# Altium footprint library HLib_connector_fp.PcbLib: 41 footprints (part 2 of 3)
Each footprint in its own frame and in the unit in brackets; x right, y up, seen from the top. Pads: shape width x height; smd on the part's side, far side on the other; paste and mask are expansions set on the pad; w line width, h text height; cw(c..) or ccw(c..) is an arc to the next point about the centre after c.
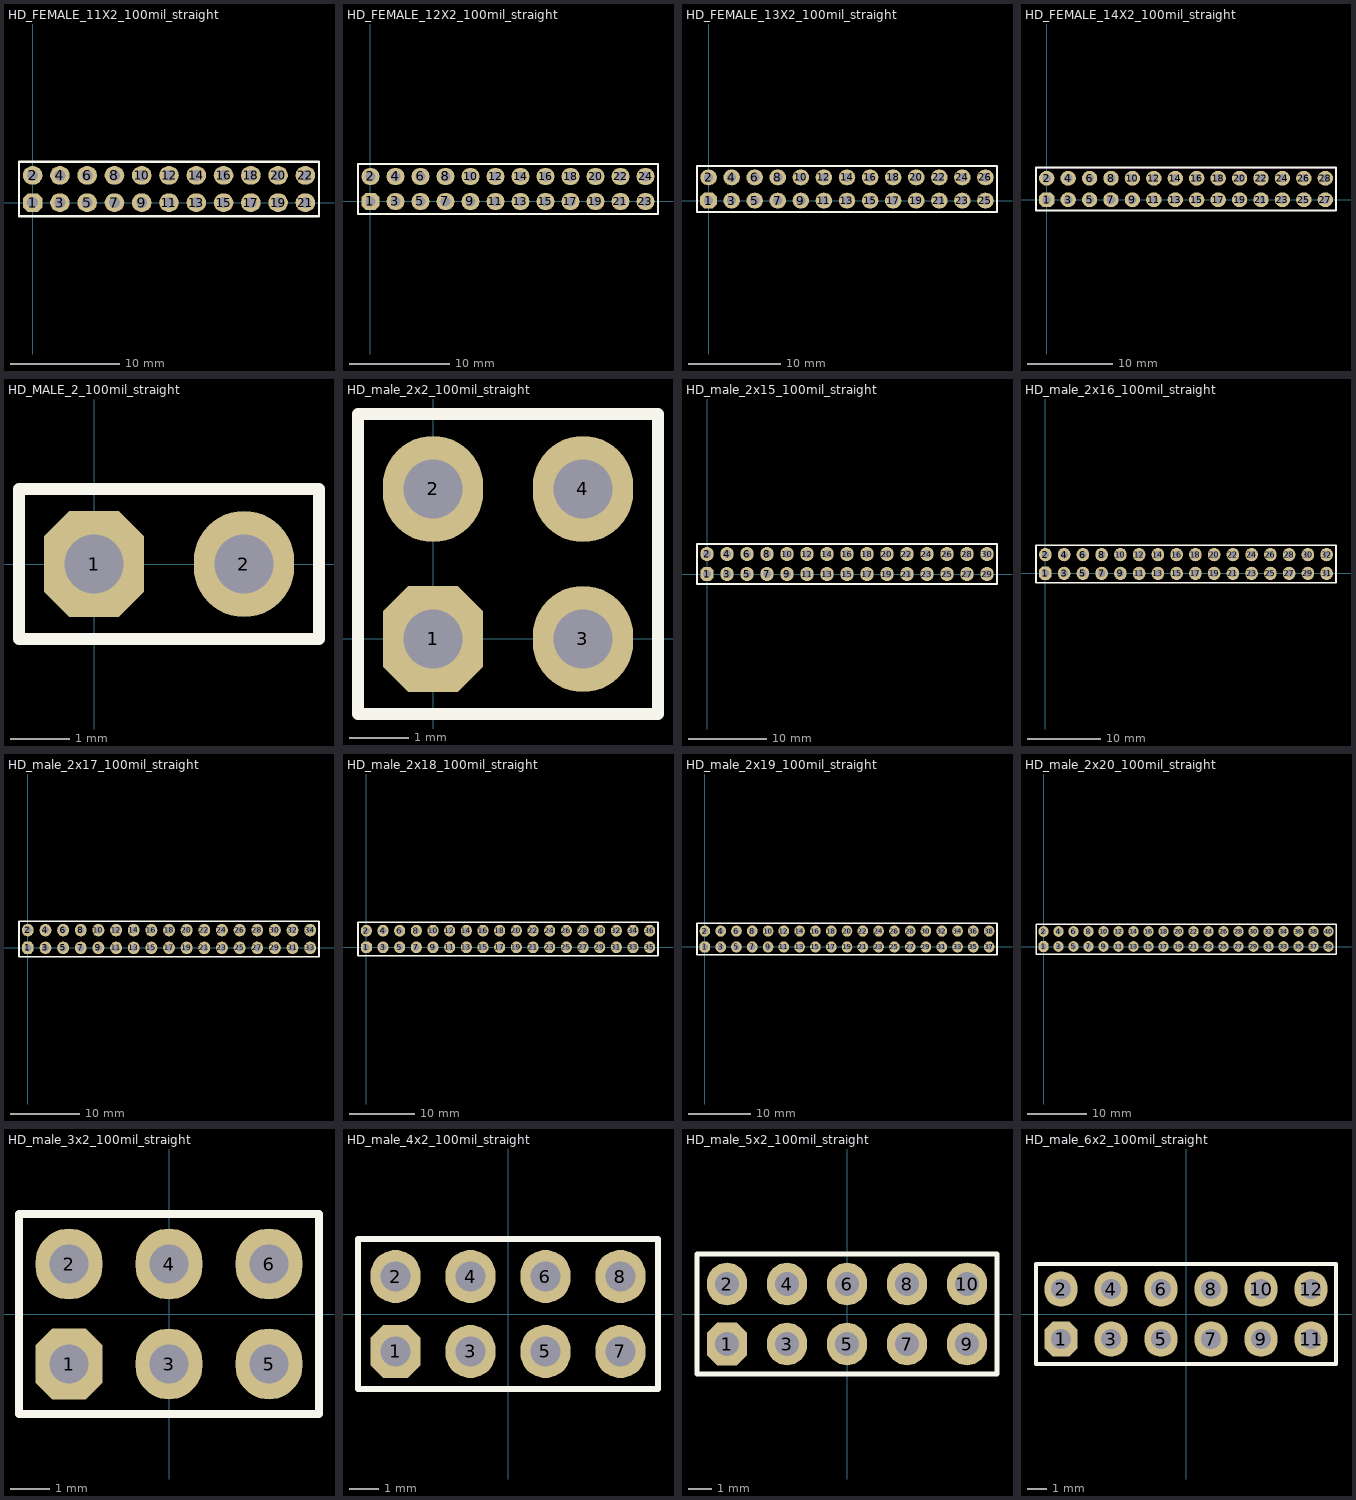
[diagram p1: the footprints below, top view; thin cyan lines are the x and y axes]

## HD_FEMALE_11X2_100mil_straight [mm]
pads (22):
  oct 1.8x1.7 hole 1: 1(0,0)
  oval 1.8x1.7 hole 1: 2(0,2.5) 3(2.5,0) 4(2.5,2.5) 5(5,0) 6(5,2.5) 7(7.5,0) 8(7.5,2.5) 9(10,0) 10(10,2.5) 11(12.5,0) 12(12.5,2.5) 13(15,0) 14(15,2.5) 15(17.5,0) 16(17.5,2.5) 17(20,0) 18(20,2.5) 19(22.5,0) 20(22.5,2.5) 21(25,0) 22(25,2.5)
Top Overlay:
  lines w0.2: -1.25,-1.25 26.25,-1.25 26.25,3.75 -1.25,3.75 -1.25,-1.25
Mechanical 15:
  lines w0.1: -1.25,-1.25 26.25,-1.25 26.25,3.75 -1.25,3.75 -1.25,-1.25
3D body: height 0, standoff -1, extent -0.25,-0.25 0.25,0.25
3D body: height 8, standoff 0, extent 0,-1.25 1.25,3.75
3D body: height 8, standoff 0, extent -1.25,-1.25 0,3.75
3D body: height 8, standoff 0, extent 2.5,-1.25 3.75,3.75
3D body: height 8, standoff 0, extent 1.25,-1.25 2.5,3.75
3D body: height 8, standoff 0, extent 5,-1.25 6.25,3.75
3D body: height 8, standoff 0, extent 3.75,-1.25 5,3.75
3D body: height 8, standoff 0, extent 7.5,-1.25 8.75,3.75
3D body: height 8, standoff 0, extent 6.25,-1.25 7.5,3.75
3D body: height 8, standoff 0, extent 10,-1.25 11.25,3.75
3D body: height 8, standoff 0, extent 8.75,-1.25 10,3.75
3D body: height 8, standoff 0, extent 12.5,-1.25 13.75,3.75
3D body: height 8, standoff 0, extent 11.25,-1.25 12.5,3.75
3D body: height 8, standoff 0, extent 15,-1.25 16.25,3.75
3D body: height 8, standoff 0, extent 13.75,-1.25 15,3.75
3D body: height 8, standoff 0, extent 17.5,-1.25 18.75,3.75
3D body: height 8, standoff 0, extent 16.25,-1.25 17.5,3.75
3D body: height 8, standoff 0, extent 20,-1.25 21.25,3.75
3D body: height 8, standoff 0, extent 18.75,-1.25 20,3.75
3D body: height 8, standoff 0, extent 22.5,-1.25 23.75,3.75
3D body: height 8, standoff 0, extent 21.25,-1.25 22.5,3.75
3D body: height 8, standoff 0, extent 25,-1.25 26.25,3.75
3D body: height 8, standoff 0, extent 23.75,-1.25 25,3.75
3D body: height 0, standoff -1, extent -0.25,2.25 0.25,2.75
3D body: height 0, standoff -1, extent 2.25,2.25 2.75,2.75
3D body: height 0, standoff -1, extent 2.25,-0.25 2.75,0.25
3D body: height 0, standoff -1, extent 4.75,2.25 5.25,2.75
3D body: height 0, standoff -1, extent 4.75,-0.25 5.25,0.25
3D body: height 0, standoff -1, extent 7.25,2.25 7.75,2.75
3D body: height 0, standoff -1, extent 7.25,-0.25 7.75,0.25
3D body: height 0, standoff -1, extent 9.75,2.25 10.25,2.75
3D body: height 0, standoff -1, extent 9.75,-0.25 10.25,0.25
3D body: height 0, standoff -1, extent 12.25,2.25 12.75,2.75
3D body: height 0, standoff -1, extent 12.25,-0.25 12.75,0.25
3D body: height 0, standoff -1, extent 14.75,2.25 15.25,2.75
3D body: height 0, standoff -1, extent 14.75,-0.25 15.25,0.25
3D body: height 0, standoff -1, extent 17.25,2.25 17.75,2.75
3D body: height 0, standoff -1, extent 17.25,-0.25 17.75,0.25
3D body: height 0, standoff -1, extent 19.75,2.25 20.25,2.75
3D body: height 0, standoff -1, extent 19.75,-0.25 20.25,0.25
3D body: height 0, standoff -1, extent 22.25,2.25 22.75,2.75
3D body: height 0, standoff -1, extent 22.25,-0.25 22.75,0.25
3D body: height 0, standoff -1, extent 24.75,2.25 25.25,2.75
3D body: height 0, standoff -1, extent 24.75,-0.25 25.25,0.25

## HD_FEMALE_12X2_100mil_straight [mm]
pads (24):
  oct 1.8x1.7 hole 1: 1(0,0)
  oval 1.8x1.7 hole 1: 2(0,2.5) 3(2.5,0) 4(2.5,2.5) 5(5,0) 6(5,2.5) 7(7.5,0) 8(7.5,2.5) 9(10,0) 10(10,2.5) 11(12.5,0) 12(12.5,2.5) 13(15,0) 14(15,2.5) 15(17.5,0) 16(17.5,2.5) 17(20,0) 18(20,2.5) 19(22.5,0) 20(22.5,2.5) 21(25,0) 22(25,2.5) 23(27.5,0) 24(27.5,2.5)
Top Overlay:
  lines w0.2: -1.25,-1.25 -1.25,3.75 28.75,3.75 28.75,-1.25 -1.25,-1.25
Mechanical 15:
  lines w0.1: -1.25,-1.25 -1.25,3.75 28.75,3.75 28.75,-1.25 -1.25,-1.25
3D body: height 0, standoff -1, extent 27.25,-0.25 27.75,0.25
3D body: height 0, standoff -1, extent 27.25,2.25 27.75,2.75
3D body: height 0, standoff -1, extent 24.75,-0.25 25.25,0.25
3D body: height 0, standoff -1, extent 24.75,2.25 25.25,2.75
3D body: height 0, standoff -1, extent 22.25,-0.25 22.75,0.25
3D body: height 0, standoff -1, extent 22.25,2.25 22.75,2.75
3D body: height 0, standoff -1, extent 19.75,-0.25 20.25,0.25
3D body: height 0, standoff -1, extent 19.75,2.25 20.25,2.75
3D body: height 0, standoff -1, extent 17.25,-0.25 17.75,0.25
3D body: height 0, standoff -1, extent 17.25,2.25 17.75,2.75
3D body: height 0, standoff -1, extent 14.75,-0.25 15.25,0.25
3D body: height 0, standoff -1, extent 14.75,2.25 15.25,2.75
3D body: height 0, standoff -1, extent 12.25,-0.25 12.75,0.25
3D body: height 0, standoff -1, extent 12.25,2.25 12.75,2.75
3D body: height 0, standoff -1, extent 9.75,-0.25 10.25,0.25
3D body: height 0, standoff -1, extent 9.75,2.25 10.25,2.75
3D body: height 0, standoff -1, extent 7.25,-0.25 7.75,0.25
3D body: height 0, standoff -1, extent 7.25,2.25 7.75,2.75
3D body: height 0, standoff -1, extent 4.75,-0.25 5.25,0.25
3D body: height 0, standoff -1, extent 4.75,2.25 5.25,2.75
3D body: height 0, standoff -1, extent 2.25,-0.25 2.75,0.25
3D body: height 0, standoff -1, extent 2.25,2.25 2.75,2.75
3D body: height 0, standoff -1, extent -0.25,2.25 0.25,2.75
3D body: height 8, standoff 0, extent 26.25,-1.25 27.5,3.75
3D body: height 8, standoff 0, extent 27.5,-1.25 28.75,3.75
3D body: height 8, standoff 0, extent 23.75,-1.25 25,3.75
3D body: height 8, standoff 0, extent 25,-1.25 26.25,3.75
3D body: height 8, standoff 0, extent 21.25,-1.25 22.5,3.75
3D body: height 8, standoff 0, extent 22.5,-1.25 23.75,3.75
3D body: height 8, standoff 0, extent 18.75,-1.25 20,3.75
3D body: height 8, standoff 0, extent 20,-1.25 21.25,3.75
3D body: height 8, standoff 0, extent 16.25,-1.25 17.5,3.75
3D body: height 8, standoff 0, extent 17.5,-1.25 18.75,3.75
3D body: height 8, standoff 0, extent 13.75,-1.25 15,3.75
3D body: height 8, standoff 0, extent 15,-1.25 16.25,3.75
3D body: height 8, standoff 0, extent 11.25,-1.25 12.5,3.75
3D body: height 8, standoff 0, extent 12.5,-1.25 13.75,3.75
3D body: height 8, standoff 0, extent 8.75,-1.25 10,3.75
3D body: height 8, standoff 0, extent 10,-1.25 11.25,3.75
3D body: height 8, standoff 0, extent 6.25,-1.25 7.5,3.75
3D body: height 8, standoff 0, extent 7.5,-1.25 8.75,3.75
3D body: height 8, standoff 0, extent 3.75,-1.25 5,3.75
3D body: height 8, standoff 0, extent 5,-1.25 6.25,3.75
3D body: height 8, standoff 0, extent 1.25,-1.25 2.5,3.75
3D body: height 8, standoff 0, extent 2.5,-1.25 3.75,3.75
3D body: height 8, standoff 0, extent -1.25,-1.25 0,3.75
3D body: height 8, standoff 0, extent 0,-1.25 1.25,3.75
3D body: height 0, standoff -1, extent -0.25,-0.25 0.25,0.25

## HD_FEMALE_13X2_100mil_straight [mm]
pads (26):
  oct 1.8x1.7 hole 1: 1(0,0)
  oval 1.8x1.7 hole 1: 2(0,2.5) 3(2.5,0) 4(2.5,2.5) 5(5,0) 6(5,2.5) 7(7.5,0) 8(7.5,2.5) 9(10,0) 10(10,2.5) 11(12.5,0) 12(12.5,2.5) 13(15,0) 14(15,2.5) 15(17.5,0) 16(17.5,2.5) 17(20,0) 18(20,2.5) 19(22.5,0) 20(22.5,2.5) 21(25,0) 22(25,2.5) 23(27.5,0) 24(27.5,2.5) 25(30,0) 26(30,2.5)
Top Overlay:
  lines w0.2: -1.25,-1.25 31.25,-1.25 31.25,3.75 -1.25,3.75 -1.25,-1.25
Mechanical 15:
  lines w0.1: -1.25,-1.25 31.25,-1.25 31.25,3.75 -1.25,3.75 -1.25,-1.25
3D body: height 0, standoff -1, extent -0.25,-0.25 0.25,0.25
3D body: height 8, standoff 0, extent 0,-1.25 1.25,3.75
3D body: height 8, standoff 0, extent -1.25,-1.25 0,3.75
3D body: height 8, standoff 0, extent 2.5,-1.25 3.75,3.75
3D body: height 8, standoff 0, extent 1.25,-1.25 2.5,3.75
3D body: height 8, standoff 0, extent 5,-1.25 6.25,3.75
3D body: height 8, standoff 0, extent 3.75,-1.25 5,3.75
3D body: height 8, standoff 0, extent 7.5,-1.25 8.75,3.75
3D body: height 8, standoff 0, extent 6.25,-1.25 7.5,3.75
3D body: height 8, standoff 0, extent 10,-1.25 11.25,3.75
3D body: height 8, standoff 0, extent 8.75,-1.25 10,3.75
3D body: height 8, standoff 0, extent 12.5,-1.25 13.75,3.75
3D body: height 8, standoff 0, extent 11.25,-1.25 12.5,3.75
3D body: height 8, standoff 0, extent 15,-1.25 16.25,3.75
3D body: height 8, standoff 0, extent 13.75,-1.25 15,3.75
3D body: height 8, standoff 0, extent 17.5,-1.25 18.75,3.75
3D body: height 8, standoff 0, extent 16.25,-1.25 17.5,3.75
3D body: height 8, standoff 0, extent 20,-1.25 21.25,3.75
3D body: height 8, standoff 0, extent 18.75,-1.25 20,3.75
3D body: height 8, standoff 0, extent 22.5,-1.25 23.75,3.75
3D body: height 8, standoff 0, extent 21.25,-1.25 22.5,3.75
3D body: height 8, standoff 0, extent 25,-1.25 26.25,3.75
3D body: height 8, standoff 0, extent 23.75,-1.25 25,3.75
3D body: height 8, standoff 0, extent 27.5,-1.25 28.75,3.75
3D body: height 8, standoff 0, extent 26.25,-1.25 27.5,3.75
3D body: height 8, standoff 0, extent 30,-1.25 31.25,3.75
3D body: height 8, standoff 0, extent 28.75,-1.25 30,3.75
3D body: height 0, standoff -1, extent -0.25,2.25 0.25,2.75
3D body: height 0, standoff -1, extent 2.25,2.25 2.75,2.75
3D body: height 0, standoff -1, extent 2.25,-0.25 2.75,0.25
3D body: height 0, standoff -1, extent 4.75,2.25 5.25,2.75
3D body: height 0, standoff -1, extent 4.75,-0.25 5.25,0.25
3D body: height 0, standoff -1, extent 7.25,2.25 7.75,2.75
3D body: height 0, standoff -1, extent 7.25,-0.25 7.75,0.25
3D body: height 0, standoff -1, extent 9.75,2.25 10.25,2.75
3D body: height 0, standoff -1, extent 9.75,-0.25 10.25,0.25
3D body: height 0, standoff -1, extent 12.25,2.25 12.75,2.75
3D body: height 0, standoff -1, extent 12.25,-0.25 12.75,0.25
3D body: height 0, standoff -1, extent 14.75,2.25 15.25,2.75
3D body: height 0, standoff -1, extent 14.75,-0.25 15.25,0.25
3D body: height 0, standoff -1, extent 17.25,2.25 17.75,2.75
3D body: height 0, standoff -1, extent 17.25,-0.25 17.75,0.25
3D body: height 0, standoff -1, extent 19.75,2.25 20.25,2.75
3D body: height 0, standoff -1, extent 19.75,-0.25 20.25,0.25
3D body: height 0, standoff -1, extent 22.25,2.25 22.75,2.75
3D body: height 0, standoff -1, extent 22.25,-0.25 22.75,0.25
3D body: height 0, standoff -1, extent 24.75,2.25 25.25,2.75
3D body: height 0, standoff -1, extent 24.75,-0.25 25.25,0.25
3D body: height 0, standoff -1, extent 27.25,2.25 27.75,2.75
3D body: height 0, standoff -1, extent 27.25,-0.25 27.75,0.25
3D body: height 0, standoff -1, extent 29.75,2.25 30.25,2.75
3D body: height 0, standoff -1, extent 29.75,-0.25 30.25,0.25

## HD_FEMALE_14X2_100mil_straight [mm]
pads (28):
  oct 1.8x1.7 hole 1: 1(0,0)
  oval 1.8x1.7 hole 1: 2(0,2.5) 3(2.5,0) 4(2.5,2.5) 5(5,0) 6(5,2.5) 7(7.5,0) 8(7.5,2.5) 9(10,0) 10(10,2.5) 11(12.5,0) 12(12.5,2.5) 13(15,0) 14(15,2.5) 15(17.5,0) 16(17.5,2.5) 17(20,0) 18(20,2.5) 19(22.5,0) 20(22.5,2.5) 21(25,0) 22(25,2.5) 23(27.5,0) 24(27.5,2.5) 25(30,0) 26(30,2.5) 27(32.5,0) 28(32.5,2.5)
Top Overlay:
  lines w0.2: -1.25,-1.25 33.75,-1.25 33.75,3.75 -1.25,3.75 -1.25,-1.25
Mechanical 15:
  lines w0.1: -1.25,-1.25 33.75,-1.25 33.75,3.75 -1.25,3.75 -1.25,-1.25
3D body: height 0, standoff -1, extent -0.25,-0.25 0.25,0.25
3D body: height 8, standoff 0, extent 0,-1.25 1.25,3.75
3D body: height 8, standoff 0, extent -1.25,-1.25 0,3.75
3D body: height 8, standoff 0, extent 2.5,-1.25 3.75,3.75
3D body: height 8, standoff 0, extent 1.25,-1.25 2.5,3.75
3D body: height 8, standoff 0, extent 5,-1.25 6.25,3.75
3D body: height 8, standoff 0, extent 3.75,-1.25 5,3.75
3D body: height 8, standoff 0, extent 7.5,-1.25 8.75,3.75
3D body: height 8, standoff 0, extent 6.25,-1.25 7.5,3.75
3D body: height 8, standoff 0, extent 10,-1.25 11.25,3.75
3D body: height 8, standoff 0, extent 8.75,-1.25 10,3.75
3D body: height 8, standoff 0, extent 12.5,-1.25 13.75,3.75
3D body: height 8, standoff 0, extent 11.25,-1.25 12.5,3.75
3D body: height 8, standoff 0, extent 15,-1.25 16.25,3.75
3D body: height 8, standoff 0, extent 13.75,-1.25 15,3.75
3D body: height 8, standoff 0, extent 17.5,-1.25 18.75,3.75
3D body: height 8, standoff 0, extent 16.25,-1.25 17.5,3.75
3D body: height 8, standoff 0, extent 20,-1.25 21.25,3.75
3D body: height 8, standoff 0, extent 18.75,-1.25 20,3.75
3D body: height 8, standoff 0, extent 22.5,-1.25 23.75,3.75
3D body: height 8, standoff 0, extent 21.25,-1.25 22.5,3.75
3D body: height 8, standoff 0, extent 25,-1.25 26.25,3.75
3D body: height 8, standoff 0, extent 23.75,-1.25 25,3.75
3D body: height 8, standoff 0, extent 27.5,-1.25 28.75,3.75
3D body: height 8, standoff 0, extent 26.25,-1.25 27.5,3.75
3D body: height 8, standoff 0, extent 30,-1.25 31.25,3.75
3D body: height 8, standoff 0, extent 28.75,-1.25 30,3.75
3D body: height 8, standoff 0, extent 31.25,-1.25 32.5,3.75
3D body: height 8, standoff 0, extent 32.5,-1.25 33.75,3.75
3D body: height 0, standoff -1, extent -0.25,2.25 0.25,2.75
3D body: height 0, standoff -1, extent 2.25,2.25 2.75,2.75
3D body: height 0, standoff -1, extent 2.25,-0.25 2.75,0.25
3D body: height 0, standoff -1, extent 4.75,2.25 5.25,2.75
3D body: height 0, standoff -1, extent 4.75,-0.25 5.25,0.25
3D body: height 0, standoff -1, extent 7.25,2.25 7.75,2.75
3D body: height 0, standoff -1, extent 7.25,-0.25 7.75,0.25
3D body: height 0, standoff -1, extent 9.75,2.25 10.25,2.75
3D body: height 0, standoff -1, extent 9.75,-0.25 10.25,0.25
3D body: height 0, standoff -1, extent 12.25,2.25 12.75,2.75
3D body: height 0, standoff -1, extent 12.25,-0.25 12.75,0.25
3D body: height 0, standoff -1, extent 14.75,2.25 15.25,2.75
3D body: height 0, standoff -1, extent 14.75,-0.25 15.25,0.25
3D body: height 0, standoff -1, extent 17.25,2.25 17.75,2.75
3D body: height 0, standoff -1, extent 17.25,-0.25 17.75,0.25
3D body: height 0, standoff -1, extent 19.75,2.25 20.25,2.75
3D body: height 0, standoff -1, extent 19.75,-0.25 20.25,0.25
3D body: height 0, standoff -1, extent 22.25,2.25 22.75,2.75
3D body: height 0, standoff -1, extent 22.25,-0.25 22.75,0.25
3D body: height 0, standoff -1, extent 24.75,2.25 25.25,2.75
3D body: height 0, standoff -1, extent 24.75,-0.25 25.25,0.25
3D body: height 0, standoff -1, extent 27.25,2.25 27.75,2.75
3D body: height 0, standoff -1, extent 27.25,-0.25 27.75,0.25
3D body: height 0, standoff -1, extent 29.75,2.25 30.25,2.75
3D body: height 0, standoff -1, extent 29.75,-0.25 30.25,0.25
3D body: height 0, standoff -1, extent 32.25,2.25 32.75,2.75
3D body: height 0, standoff -1, extent 32.25,-0.25 32.75,0.25

## HD_MALE_2_100mil_straight [mm]
pads (2):
  oct 1.7x1.8 hole 1: 1(0,0)
  oval 1.7x1.8 hole 1: 2(2.54,0)
Top Overlay:
  lines w0.2: -1.27,-1.27 3.81,-1.27 3.81,1.27 -1.27,1.27 -1.27,-1.27
Mechanical 15:
  lines w0.1: -1.27,-1.27 3.81,-1.27 3.81,1.27 -1.27,1.27 -1.27,-1.27
3D body: height 8, standoff -1, extent -0.254,-0.254 0.254,0.254
3D body: height 8, standoff -1, extent 2.286,-0.254 2.794,0.254
3D body: height 2, standoff 0, extent -1.27,-1.27 1.27,1.27
3D body: height 2, standoff 0, extent 1.27,-1.27 3.81,1.27

## HD_male_2x2_100mil_straight [mm]
pads (4):
  oct 1.7x1.8 hole 1: 1(0,0)
  oval 1.7x1.8 hole 1: 2(0,2.54) 3(2.54,0) 4(2.54,2.54)
Top Overlay:
  lines w0.2: -1.27,-1.27 -1.27,3.81 3.81,3.81 3.81,-1.27 -1.27,-1.27
Mechanical 15:
  lines w0.1: -1.27,-1.27 -1.27,3.81 3.81,3.81 3.81,-1.27 -1.27,-1.27
3D body: height 8, standoff -1, extent 2.286,2.286 2.794,2.794
3D body: height 8, standoff -1, extent 2.286,-0.254 2.794,0.254
3D body: height 8, standoff -1, extent 0,2.286 0.508,2.794
3D body: height 8, standoff -1, extent -0.254,-0.254 0.254,0.254
3D body: height 2, standoff 0, extent 1.27,1.27 3.81,3.81
3D body: height 2, standoff 0, extent -1.27,-1.27 1.27,1.27
3D body: height 2, standoff 0, extent 1.27,-1.27 3.81,1.27
3D body: height 2, standoff 0, extent -1.27,1.27 1.27,3.81

## HD_male_2x15_100mil_straight [mm]
pads (30):
  oct 1.7x1.8 hole 1: 1(0,0)
  oval 1.7x1.8 hole 1: 2(0,2.54) 3(2.54,0) 4(2.54,2.54) 5(5.08,0) 6(5.08,2.54) 7(7.62,0) 8(7.62,2.54) 9(10.16,0) 10(10.16,2.54) 11(12.7,0) 12(12.7,2.54) 13(15.24,0) 14(15.24,2.54) 15(17.78,0) 16(17.78,2.54) 17(20.32,0) 18(20.32,2.54) 19(22.86,0) 20(22.86,2.54) 21(25.4,0) 22(25.4,2.54) 23(27.94,0) 24(27.94,2.54) 25(30.48,0) 26(30.48,2.54) 27(33.02,0) 28(33.02,2.54) 29(35.56,0) 30(35.56,2.54)
Top Overlay:
  lines w0.254: -1.27,-1.27 36.83,-1.27 36.83,3.81 -1.27,3.81 -1.27,-1.27
3D body: height 9.5, standoff -3, extent -1.27,-1.27 36.83,3.81

## HD_male_2x16_100mil_straight [mm]
pads (32):
  oct 1.7x1.8 hole 1: 1(0,0)
  oval 1.7x1.8 hole 1: 2(0,2.54) 3(2.54,0) 4(2.54,2.54) 5(5.08,0) 6(5.08,2.54) 7(7.62,0) 8(7.62,2.54) 9(10.16,0) 10(10.16,2.54) 11(12.7,0) 12(12.7,2.54) 13(15.24,0) 14(15.24,2.54) 15(17.78,0) 16(17.78,2.54) 17(20.32,0) 18(20.32,2.54) 19(22.86,0) 20(22.86,2.54) 21(25.4,0) 22(25.4,2.54) 23(27.94,0) 24(27.94,2.54) 25(30.48,0) 26(30.48,2.54) 27(33.02,0) 28(33.02,2.54) 29(35.56,0) 30(35.56,2.54) 31(38.1,0) 32(38.1,2.54)
Top Overlay:
  lines w0.254: -1.27,-1.27 -1.27,3.81 39.37,3.81 39.37,-1.27 -1.27,-1.27
3D body: height 9.5, standoff -3, extent -1.27,-1.27 39.37,3.81

## HD_male_2x17_100mil_straight [mm]
pads (34):
  oct 1.7x1.8 hole 1: 1(0,0)
  oval 1.7x1.8 hole 1: 2(0,2.54) 3(2.54,0) 4(2.54,2.54) 5(5.08,0) 6(5.08,2.54) 7(7.62,0) 8(7.62,2.54) 9(10.16,0) 10(10.16,2.54) 11(12.7,0) 12(12.7,2.54) 13(15.24,0) 14(15.24,2.54) 15(17.78,0) 16(17.78,2.54) 17(20.32,0) 18(20.32,2.54) 19(22.86,0) 20(22.86,2.54) 21(25.4,0) 22(25.4,2.54) 23(27.94,0) 24(27.94,2.54) 25(30.48,0) 26(30.48,2.54) 27(33.02,0) 28(33.02,2.54) 29(35.56,0) 30(35.56,2.54) 31(38.1,0) 32(38.1,2.54) 33(40.64,0) 34(40.64,2.54)
Top Overlay:
  lines w0.254: -1.27,-1.27 41.91,-1.27 41.91,3.81 -1.27,3.81 -1.27,-1.27
3D body: height 9.5, standoff -3, extent -1.27,-1.27 41.91,3.81

## HD_male_2x18_100mil_straight [mm]
pads (36):
  oct 1.7x1.8 hole 1: 1(0,0)
  oval 1.7x1.8 hole 1: 2(0,2.54) 3(2.54,0) 4(2.54,2.54) 5(5.08,0) 6(5.08,2.54) 7(7.62,0) 8(7.62,2.54) 9(10.16,0) 10(10.16,2.54) 11(12.7,0) 12(12.7,2.54) 13(15.24,0) 14(15.24,2.54) 15(17.78,0) 16(17.78,2.54) 17(20.32,0) 18(20.32,2.54) 19(22.86,0) 20(22.86,2.54) 21(25.4,0) 22(25.4,2.54) 23(27.94,0) 24(27.94,2.54) 25(30.48,0) 26(30.48,2.54) 27(33.02,0) 28(33.02,2.54) 29(35.56,0) 30(35.56,2.54) 31(38.1,0) 32(38.1,2.54) 33(40.64,0) 34(40.64,2.54) 35(43.18,0) 36(43.18,2.54)
Top Overlay:
  lines w0.254: -1.27,-1.27 -1.27,3.81 44.45,3.81 44.45,-1.27 -1.27,-1.27
3D body: height 9.5, standoff -3, extent -1.27,-1.27 44.45,3.81

## HD_male_2x19_100mil_straight [mm]
pads (38):
  oct 1.7x1.8 hole 1: 1(0,0)
  oval 1.7x1.8 hole 1: 2(0,2.54) 3(2.54,0) 4(2.54,2.54) 5(5.08,0) 6(5.08,2.54) 7(7.62,0) 8(7.62,2.54) 9(10.16,0) 10(10.16,2.54) 11(12.7,0) 12(12.7,2.54) 13(15.24,0) 14(15.24,2.54) 15(17.78,0) 16(17.78,2.54) 17(20.32,0) 18(20.32,2.54) 19(22.86,0) 20(22.86,2.54) 21(25.4,0) 22(25.4,2.54) 23(27.94,0) 24(27.94,2.54) 25(30.48,0) 26(30.48,2.54) 27(33.02,0) 28(33.02,2.54) 29(35.56,0) 30(35.56,2.54) 31(38.1,0) 32(38.1,2.54) 33(40.64,0) 34(40.64,2.54) 35(43.18,0) 36(43.18,2.54) 37(45.72,0) 38(45.72,2.54)
Top Overlay:
  lines w0.254: -1.27,-1.27 -1.27,3.81 46.99,3.81 46.99,-1.27 -1.27,-1.27
3D body: height 9.5, standoff -3, extent -1.27,-1.27 46.99,3.81

## HD_male_2x20_100mil_straight [mm]
pads (40):
  oct 1.7x1.8 hole 1: 1(0,0)
  oval 1.7x1.8 hole 1: 2(0,2.54) 3(2.54,0) 4(2.54,2.54) 5(5.08,0) 6(5.08,2.54) 7(7.62,0) 8(7.62,2.54) 9(10.16,0) 10(10.16,2.54) 11(12.7,0) 12(12.7,2.54) 13(15.24,0) 14(15.24,2.54) 15(17.78,0) 16(17.78,2.54) 17(20.32,0) 18(20.32,2.54) 19(22.86,0) 20(22.86,2.54) 21(25.4,0) 22(25.4,2.54) 23(27.94,0) 24(27.94,2.54) 25(30.48,0) 26(30.48,2.54) 27(33.02,0) 28(33.02,2.54) 29(35.56,0) 30(35.56,2.54) 31(38.1,0) 32(38.1,2.54) 33(40.64,0) 34(40.64,2.54) 35(43.18,0) 36(43.18,2.54) 37(45.72,0) 38(45.72,2.54) 39(48.26,0) 40(48.26,2.54)
Top Overlay:
  lines w0.254: -1.27,-1.27 -1.27,3.81 49.53,3.81 49.53,-1.27 -1.27,-1.27
3D body: height 9.5, standoff -3, extent -1.27,-1.27 49.53,3.81

## HD_male_3x2_100mil_straight [mm]
pads (6):
  oct 1.7x1.8 hole 1: 1(-2.54,-1.27)
  oval 1.7x1.8 hole 1: 2(-2.54,1.27) 3(0,-1.27) 4(0,1.27) 5(2.54,-1.27) 6(2.54,1.27)
Top Overlay:
  lines w0.2: -3.81,-2.54 3.81,-2.54 3.81,2.54 -3.81,2.54 -3.81,-2.54
Mechanical 15 keep-out:
  lines w0.1: -3.81,-2.54 -3.81,2.54 3.81,2.54 3.81,-2.54 -3.81,-2.54
3D body: height 2, standoff 0, extent 1.27,0 3.81,2.54
3D body: height 2, standoff 0, extent -1.27,0 1.27,2.54
3D body: height 2, standoff 0, extent -3.81,0 -1.27,2.54
3D body: height 2, standoff 0, extent 1.27,-2.54 3.81,0
3D body: height 2, standoff 0, extent -1.27,-2.54 1.27,0
3D body: height 2, standoff 0, extent -3.81,-2.54 -1.27,0
3D body: height 8, standoff -1, extent 2.286,1.016 2.794,1.524
3D body: height 8, standoff -1, extent 2.286,-1.524 2.794,-1.016
3D body: height 8, standoff -1, extent -0.254,1.016 0.254,1.524
3D body: height 8, standoff -1, extent -0.254,-1.524 0.254,-1.016
3D body: height 8, standoff -1, extent -2.794,1.016 -2.286,1.524
3D body: height 8, standoff -1, extent -2.794,-1.524 -2.286,-1.016

## HD_male_4x2_100mil_straight [mm]
pads (8):
  oct 1.7x1.8 hole 1: 1(-3.81,-1.27)
  oval 1.7x1.8 hole 1: 2(-3.81,1.27) 3(-1.27,-1.27) 4(-1.27,1.27) 5(1.27,-1.27) 6(1.27,1.27) 7(3.81,-1.27) 8(3.81,1.27)
Top Overlay:
  lines w0.2: -5.08,-2.54 5.08,-2.54 5.08,2.54 -5.08,2.54 -5.08,-2.54
Mechanical 15 keep-out:
  lines w0.1: -5.08,-2.54 -5.08,2.54 5.08,2.54 5.08,-2.54 -5.08,-2.54
3D body: height 2, standoff 0, extent -5.08,-2.54 -2.54,0
3D body: height 2, standoff 0, extent -2.54,-2.54 0,0
3D body: height 2, standoff 0, extent 0,-2.54 2.54,0
3D body: height 2, standoff 0, extent 2.54,-2.54 5.08,0
3D body: height 2, standoff 0, extent -5.08,0 -2.54,2.54
3D body: height 2, standoff 0, extent -2.54,0 0,2.54
3D body: height 2, standoff 0, extent 0,0 2.54,2.54
3D body: height 2, standoff 0, extent 2.54,0 5.08,2.54
3D body: height 8, standoff -1, extent 3.556,-1.524 4.064,-1.016
3D body: height 8, standoff -1, extent 1.016,-1.524 1.524,-1.016
3D body: height 8, standoff -1, extent -1.524,-1.524 -1.016,-1.016
3D body: height 8, standoff -1, extent -4.064,-1.524 -3.556,-1.016
3D body: height 8, standoff -1, extent -4.064,1.016 -3.556,1.524
3D body: height 8, standoff -1, extent -1.524,1.016 -1.016,1.524
3D body: height 8, standoff -1, extent 1.016,1.016 1.524,1.524
3D body: height 8, standoff -1, extent 3.556,1.016 4.064,1.524

## HD_male_5x2_100mil_straight [mm]
pads (10):
  oct 1.7x1.8 hole 1: 1(-5.08,-1.27)
  oval 1.7x1.8 hole 1: 2(-5.08,1.27) 3(-2.54,-1.27) 4(-2.54,1.27) 5(0,-1.27) 6(0,1.27) 7(2.54,-1.27) 8(2.54,1.27) 9(5.08,-1.27) 10(5.08,1.27)
Top Overlay:
  lines w0.2: -6.35,-2.54 -6.35,2.54 6.35,2.54 6.35,-2.54 -6.35,-2.54
Mechanical 15 keep-out:
  lines w0.1: -6.35,-2.54 -6.35,2.54 6.35,2.54 6.35,-2.54 -6.35,-2.54
3D body: height 2, standoff 0, extent 3.81,0 6.35,2.54
3D body: height 2, standoff 0, extent 1.27,0 3.81,2.54
3D body: height 2, standoff 0, extent -1.27,0 1.27,2.54
3D body: height 2, standoff 0, extent -3.81,0 -1.27,2.54
3D body: height 2, standoff 0, extent -6.35,0 -3.81,2.54
3D body: height 2, standoff 0, extent 3.81,-2.54 6.35,0
3D body: height 2, standoff 0, extent 1.27,-2.54 3.81,0
3D body: height 2, standoff 0, extent -1.27,-2.54 1.27,0
3D body: height 2, standoff 0, extent -3.81,-2.54 -1.27,0
3D body: height 2, standoff 0, extent -6.35,-2.54 -3.81,0
3D body: height 8, standoff -1, extent 4.826,1.016 5.334,1.524
3D body: height 8, standoff -1, extent 2.286,1.016 2.794,1.524
3D body: height 8, standoff -1, extent 4.826,-1.524 5.334,-1.016
3D body: height 8, standoff -1, extent 2.286,-1.524 2.794,-1.016
3D body: height 8, standoff -1, extent -0.254,-1.524 0.254,-1.016
3D body: height 8, standoff -1, extent -2.794,-1.524 -2.286,-1.016
3D body: height 8, standoff -1, extent -5.334,-1.524 -4.826,-1.016
3D body: height 8, standoff -1, extent -5.334,1.016 -4.826,1.524
3D body: height 8, standoff -1, extent -2.794,1.016 -2.286,1.524
3D body: height 8, standoff -1, extent -0.254,1.016 0.254,1.524

## HD_male_6x2_100mil_straight [mm]
pads (12):
  oct 1.7x1.8 hole 1: 1(-6.35,-1.27)
  oval 1.7x1.8 hole 1: 2(-6.35,1.27) 3(-3.81,-1.27) 4(-3.81,1.27) 5(-1.27,-1.27) 6(-1.27,1.27) 7(1.27,-1.27) 8(1.27,1.27) 9(3.81,-1.27) 10(3.81,1.27) 11(6.35,-1.27) 12(6.35,1.27)
Top Overlay:
  lines w0.2: -7.62,-2.54 -7.62,2.54 7.62,2.54 7.62,-2.54 -7.62,-2.54
Mechanical 15 keep-out:
  lines w0.1: -7.62,-2.54 7.62,-2.54 7.62,2.54 -7.62,2.54 -7.62,-2.54
3D body: height 2, standoff 0, extent 5.08,0 7.62,2.54
3D body: height 2, standoff 0, extent 2.54,0 5.08,2.54
3D body: height 2, standoff 0, extent -7.62,0 -5.08,2.54
3D body: height 2, standoff 0, extent 5.08,-2.54 7.62,0
3D body: height 2, standoff 0, extent 0,0 2.54,2.54
3D body: height 2, standoff 0, extent -2.54,0 0,2.54
3D body: height 2, standoff 0, extent -5.08,0 -2.54,2.54
3D body: height 2, standoff 0, extent 2.54,-2.54 5.08,0
3D body: height 2, standoff 0, extent 0,-2.54 2.54,0
3D body: height 2, standoff 0, extent -2.54,-2.54 0,0
3D body: height 2, standoff 0, extent -5.08,-2.54 -2.54,0
3D body: height 2, standoff 0, extent -7.62,-2.54 -5.08,0
3D body: height 8, standoff -1, extent 6.096,1.016 6.604,1.524
3D body: height 8, standoff -1, extent 6.096,-1.524 6.604,-1.016
3D body: height 8, standoff -1, extent 3.556,-1.524 4.064,-1.016
3D body: height 8, standoff -1, extent 3.556,1.016 4.064,1.524
3D body: height 8, standoff -1, extent 1.016,1.016 1.524,1.524
3D body: height 8, standoff -1, extent 1.016,-1.524 1.524,-1.016
3D body: height 8, standoff -1, extent -1.524,1.016 -1.016,1.524
3D body: height 8, standoff -1, extent -1.524,-1.524 -1.016,-1.016
3D body: height 8, standoff -1, extent -4.064,1.016 -3.556,1.524
3D body: height 8, standoff -1, extent -4.064,-1.524 -3.556,-1.016
3D body: height 8, standoff -1, extent -6.604,1.016 -6.096,1.524
3D body: height 8, standoff -1, extent -6.604,-1.524 -6.096,-1.016